# EAGLE library part 4611X (library resistor-sip)
Bourns 4600X Series - Thick Film Conformal SIPs 4611X-101 Resistor Network Configuration: 101 (Bussed Resistors) Resistance range: 10 ohms to 10 Megaohms Maximum Operating Voltage: 100V Source: http://www.bourns.com/ProductLine.aspx?name=standard_thick_film_networks PDF: http://www.bourns.com/data/global/pdfs/4600X.pdf
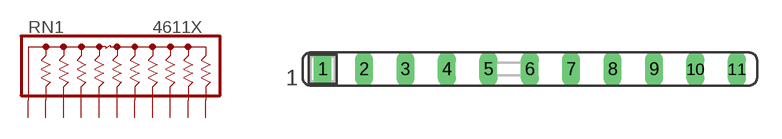
[diagram p5: symbol with the pads of SIP11; footprint SIP11]

Designator prefix RN1

## 4611X  [SIP11]
1  1  pas
2  2  pas
3  3  pas
4  4  pas
5  5  pas
6  6  pas
7  7  pas
8  8  pas
9  9  pas
10  10  pas
11  11  pas

## Footprint SIP11 (pad centres in mm)
Bourns 4611X-101 Resistor Network Source: http://www.bourns.com/data/global/pdfs/4600X.pdf
drill 0.6 long: 1 -11.46,0; 2 -8.92,0; 3 -6.38,0; 4 -3.84,0; 5 -1.3,0; 6 1.24,0; 7 3.78,0; 8 6.32,0; 9 8.86,0; 10 11.4,0; 11 13.94,0